# Altium schematic symbol library Buzzer.SchLib: 1 symbol
Pins are listed as number, name and electrical type; pins without a type are passive.

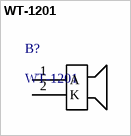
[diagram p0: symbol WT-1201]

## WT-1201
designator B?
AUDIO MAGNETIC XDCR 1-2V TH; Manufacturer: Soberton Inc.; Driver Circuitry: Transducer, Externally Driven; Input Type: Zero-Peak Signal; Voltage - Rated: 1.5V; Voltage Range: 1 ~ 2V; Frequency: 2.4kHz; Operating Mode: Single Tone; Sound Pressure Level: 85dB @ 1.5V, 10cm; Current - Supply: 35mA; Port Location: Top; Ratings: Washable; Supplier 1: Digi-Key; Supplier Part Number 1: 433-1027-ND; Manufacturer Part Number: WT-1201; RoHS: RoHS Compliant; Category: Audio Products; Stock 1: 1917; Pricing 1: 1=0.59, 10=0.504, 25=0.4052, 50=0.36, 100=0.315, 250=0.306, 500=0.297, 1000=0.27, 5000=0.243 (USD); Packaging: Bulk; Part Status: Active; Technology: Magnetic; Duration: -; Operating Temperature: -20°C ~ 60°C; Approvals: -; Mounting Type: Through Hole; Termination: PC Pins; Size / Dimension: 12.0mm Dia x 9.5mm H; Height - Seated (Max): *; ComponentLink1URL: http://www.soberton.com/wp-content/uploads/2012/06/WT-12011.pdf; ComponentLink1Description: http://www.soberton.com/wp-content/uploads/2012/06/WT-12011.pdf
footprint CYLN/D120/H095/LS7.62/BUZZER (DC Buzzer 5V/12V 12.0mm Dia x 9.5mm H, LeadSpace 7.62mm)
pins: 1 A, 2 K